# Altium footprint library 5040500991.PcbLib: 1 footprints
Each footprint in its own frame and in the unit in brackets; x right, y up, seen from the top. Pads: shape width x height; smd on the part's side, far side on the other; paste and mask are expansions set on the pad; w line width, h text height; cw(c..) or ccw(c..) is an arc to the next point about the centre after c.
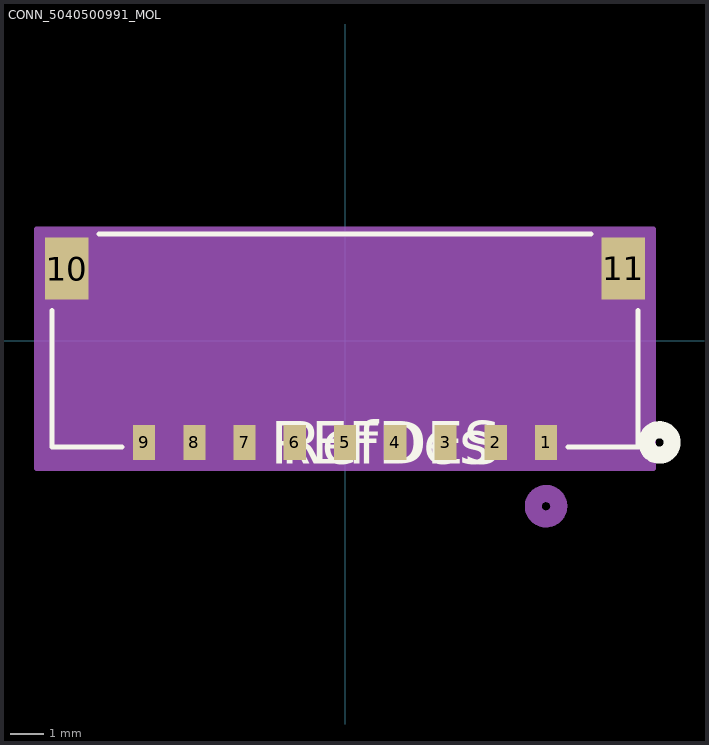
[diagram p0: the footprint, top view; thin cyan lines are the x and y axes]

## CONN_5040500991_MOL [mil]
pads (11):
  rect 26x41 smd paste+0 mask+0: 1(236.22,-119.76) 2(177.17,-119.76) 3(118.11,-119.76) 4(59.06,-119.76) 5(0,-119.76) 6(-59.06,-119.76) 7(-118.11,-119.76) 8(-177.17,-119.76) 9(-236.22,-119.76)
  rect 51x73 smd paste-36.5 mask-36.5: 10(-326.97,84.57) 11(326.97,84.57)
Top Overlay:
  circle w20: c369.5,-119.76 r15
  lines w6: -344.5,34.97 -344.5,-125 -262.32,-125 ; -288.97,125 288.97,125 ; 262.32,-125 344.5,-125 344.5,34.97
  text "RefDes" at -75,-144.76 h50
  text "REFDES" at -87.5,-144.76 h50
Bottom Overlay:
  circle w20: c369.5,-119.76 r15
Mechanical 13:
  circle w20: c236.22,-194.76 r15
  lines w1: -339.5,-120 339.5,-120 339.5,120 -339.5,120 -339.5,-120
  text "RefDes2" at -87.5,-144.76 h50
Mechanical 15:
  region: 362.47,131.07 -362.47,131.07 -362.47,-150.26 362.47,-150.26
  lines w6: -362.47,-150.26 -362.47,131.07 362.47,131.07 362.47,-150.26 -362.47,-150.26
3D body "5040500991.stp": height 78.74, standoff 0, extent -355.31,-140 355.31,113.54